# Altium footprint library terminal block 6 pin.PcbLib: 1 footprints
Each footprint in its own frame and in the unit in brackets; x right, y up, seen from the top. Pads: shape width x height; smd on the part's side, far side on the other; paste and mask are expansions set on the pad; w line width, h text height; cw(c..) or ccw(c..) is an arc to the next point about the centre after c.
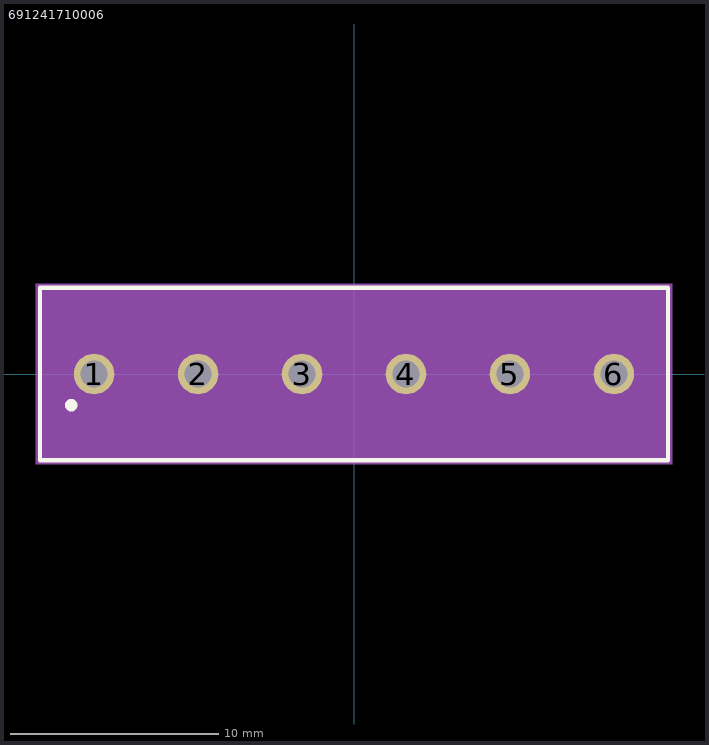
[diagram p0: the footprint, top view; thin cyan lines are the x and y axes]

## 691241710006 [mm]
pads (6):
  round 1.95 hole 1.3: 1(-12.5,0) 2(-7.5,0) 3(-2.5,0) 4(2.5,0) 5(7.5,0) 6(12.5,0)
Top Overlay:
  circle w0.4: c-13.6,-1.5 r0.1
  lines w0.2: -15.1,-4.15 -15.1,4.15 15.1,4.15 15.1,-4.15 -15.1,-4.15
Mechanical 13:
  lines w0.1: -15,-4.05 -15,4.05 15,4.05 15,-4.05 -15,-4.05
Mechanical 15:
  region: 15.3,-4.35 -15.3,-4.35 -15.3,4.35 15.3,4.35
3D body "691241710006.stp": height 10, standoff -3.5, extent -14.993,-4.036 15.007,4.064